# Altium schematic symbol library BoardLib.SchLib: 29 symbols
Pins are listed as number, name and electrical type; pins without a type are passive.

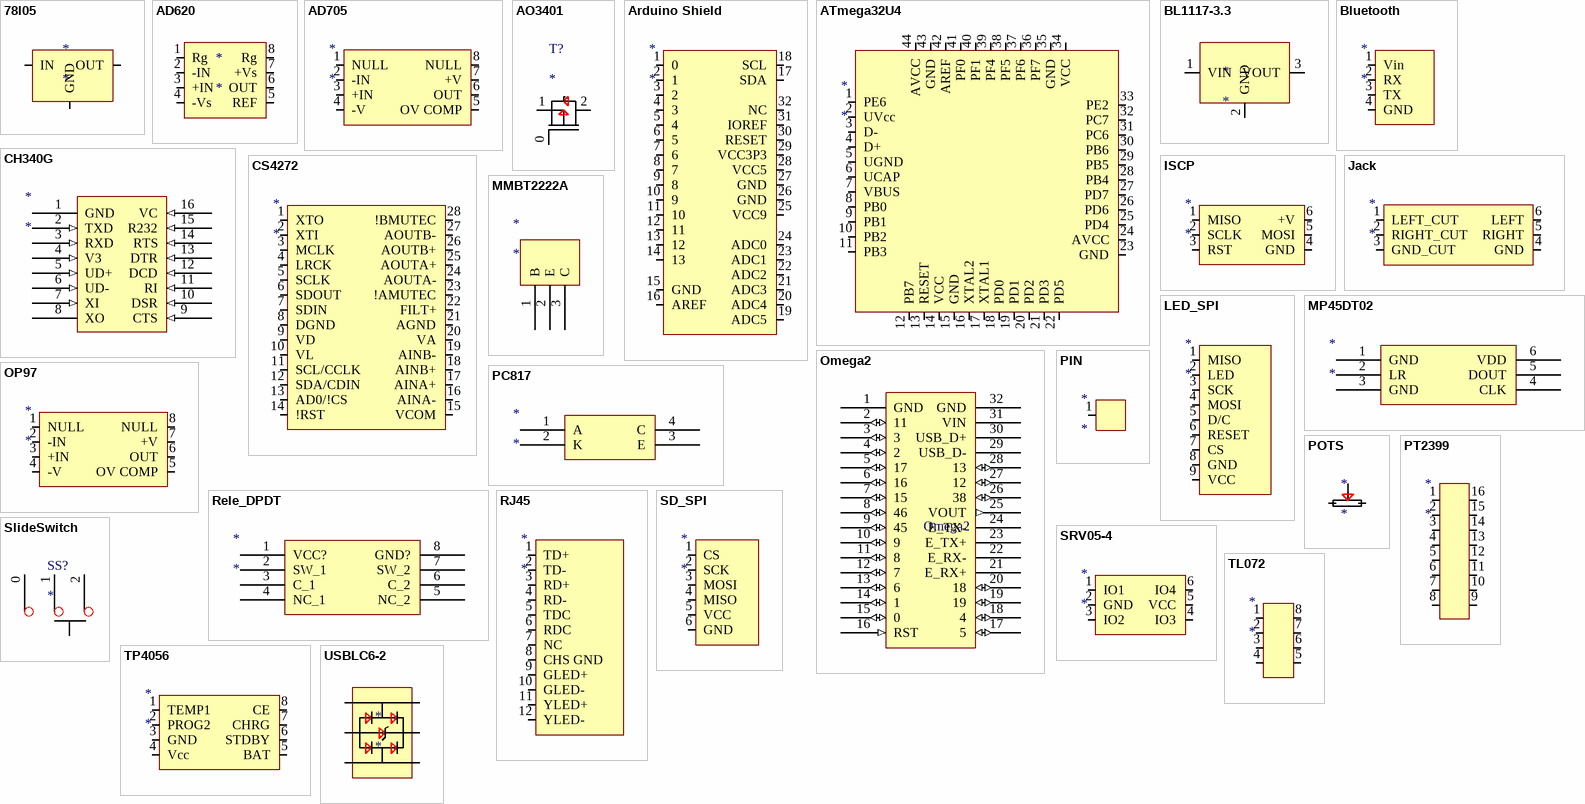
[diagram p0: symbols 78l05 to USBLC6-2]

## 78l05
designator *
footprint TO92; pin to pad 1>3 3>1
pins: 1 IN, 2 GND, 3 OUT

## AD620
designator *
footprint SOP8
pins: 1 Rg, 2 -IN, 3 +IN, 4 -Vs, 5 REF, 6 OUT, 7 +Vs, 8 Rg

## AD705
designator *
footprint SOP8
pins: 1 NULL, 2 -IN, 3 +IN, 4 -V, 5 OV COMP, 6 OUT, 7 +V, 8 NULL

## AO3401
designator T?
footprint SOT95P245X110-3N (SOT23, 3-Leads, Body 2,90x2,45mm, Pitch 0,95mm, IPC Medium Density)
pins: 0 GATE, 1 SOURCE, 2 DRAIL

## Arduino Shield
designator *
footprint Arduino Shield
pins: 1 0, 2 1, 3 2, 4 3, 5 4, 6 5, 7 6, 8 7, 9 8, 10 9, 11 10, 12 11, 13 12, 14 13, 15 GND, 16 AREF, 17 SDA, 18 SCL, 19 ADC5, 20 ADC4, 21 ADC3, 22 ADC2, 23 ADC1, 24 ADC0, 25 VCC9, 26 GND, 27 GND, 28 VCC5, 29 VCC3P3, 30 RESET, 31 IOREF, 32 NC

## ATmega32U4
designator *
pins: 1 PE6, 2 UVcc, 3 D-, 4 D+, 5 UGND, 6 UCAP, 7 VBUS, 8 PB0, 9 PB1, 10 PB2, 11 PB3, 12 PB7, 13 RESET, 14 VCC, 15 GND, 16 XTAL2, 17 XTAL1, 18 PD0, 19 PD1, 20 PD2, 21 PD3, 22 PD5, 23 GND, 24 AVCC, 25 PD4, 26 PD6, 27 PD7, 28 PB4, 29 PB5, 30 PB6, 31 PC6, 32 PC7, 33 PE2, 34 VCC, 35 GND, 36 PF7, 37 PF6, 38 PF5, 39 PF4, 40 PF1, 41 PF0, 42 AREF, 43 GND, 44 AVCC

## BL1117-3.3
designator *
footprint SOT230P700X180-4N (SOT223, 4-Leads, Body 6,50x7,00mm (avg), Pitch 2,30mm, IPC Medium Density)
pins: 1 VIN, 2 GND, 3 VOUT

## Bluetooth
designator *
pins: 1 Vin, 2 RX, 3 TX, 4 GND

## CH340G
designator *
footprint SO16
pins: 1 GND, 2 TXD (in), 3 RXD (in), 4 V3 (in), 5 UD+ (in), 6 UD- (in), 7 XI (in), 8 XO, 9 CTS (in), 10 DSR (in), 11 RI (in), 12 DCD (in), 13 DTR (in), 14 RTS (in), 15 R232 (in), 16 VC (in)

## CS4272
designator *
footprint SOP28
pins: 1 XTO, 2 XTI, 3 MCLK, 4 LRCK, 5 SCLK, 6 SDOUT, 7 SDIN, 8 DGND, 9 VD, 10 VL, 11 SCL/CCLK, 12 SDA/CDIN, 13 AD0/!CS, 14 !RST, 15 VCOM, 16 AINA-, 17 AINA+, 18 AINB+, 19 AINB-, 20 VA, 21 AGND, 22 FILT+, 23 !AMUTEC, 24 AOUTA-, 25 AOUTA+, 26 AOUTB+, 27 AOUTB-, 28 !BMUTEC

## ISCP
designator *
pins: 1 MISO, 2 SCLK, 3 RST, 4 GND, 5 MOSI, 6 +V

## Jack
designator *
footprint Audio Jack 6.3
pins: 1 LEFT_CUT, 2 RIGHT_CUT, 3 GND_CUT, 4 GND, 5 RIGHT, 6 LEFT

## LED_SPI
designator *
pins: 1 MISO, 2 LED, 3 SCK, 4 MOSI, 5 D/C, 6 RESET, 7 CS, 8 GND, 9 VCC

## MMBT2222A
designator *
footprint SOT95P245X110-3N (SOT23, 3-Leads, Body 2,90x2,45mm, Pitch 0,95mm, IPC Medium Density); pin to pad 1>0 2>1 3>2
pins: 1 B, 2 E, 3 C

## MP45DT02
designator *
footprint HLGA6L
pins: 1 GND, 2 LR, 3 GND, 4 CLK, 5 DOUT, 6 VDD

## Omega2
designator 0mega2
footprint Omega2PCB
pins: 1 GND, 2 11 (io), 3 (io), 4 2 (io), 5 17 (io), 6 16 (io), 7 15 (io), 8 46 (io), 9 45 (io), 10 9 (io), 11 8 (io), 12 7 (io), 13 6 (io), 14 1 (io), 15 0 (io), 16 RST (in), 17 5 (io), 18 4 (io), 19 (io), 20 18 (io), 21 E_RX+, 22 E_RX-, 23 E_TX+, 24 E_TX-, 25 VOUT (out), 26 38 (io), 27 12 (io), 28 13 (io), 29 USB_D-, 30 USB_D+, 31 VIN (power), 32 GND

## OP97
designator *
footprint SOP8
pins: 1 NULL, 2 -IN, 3 +IN, 4 -V, 5 OV COMP, 6 OUT, 7 +V, 8 NULL

## PC817
designator *
pins: 1 A, 2 K, 3 E, 4 C

## PIN
designator *
footprint PIN
pins: 1

## POTS
designator *
footprint POTS
pins: 1 21, 2 22, 3 20

## PT2399
designator *
footprint DIP16
pins: 1, 2, 3, 4, 5, 6, 7, 8, 9, 10, 11, 12, 13, 14, 15, 16

## Rele_DPDT
designator *
footprint 8PIN_RELE
pins: 1 VCC?, 2 SW_1, 3 C_1, 4 NC_1, 5 NC_2, 6 C_2, 7 SW_2, 8 GND?

## RJ45
designator *
footprint R911105A
pins: 1 TD+, 2 TD-, 3 RD+, 4 RD-, 5 TDC, 6 RDC, 7 NC, 8 CHS GND, 9 GLED+, 10 GLED-, 11 YLED+, 12 YLED-

## SD_SPI
designator *
pins: 1 CS, 2 SCK, 3 MOSI, 4 MISO, 5 VCC, 6 GND

## SlideSwitch
designator SS?
footprint SlideSwitch
pins: 0, 1, 2

## SRV05-4
designator *
footprint SOT23-6L
pins: 1 IO1 (in), 2 GND (in), 3 IO2 (in), 4 IO3 (in), 5 VCC (in), 6 IO4 (in)

## TL072
designator *
footprint DIP8
pins: 1, 2, 3, 4, 5, 6, 7, 8

## TP4056
designator *
pins: 1 TEMP1, 2 PROG2, 3 GND, 4 Vcc, 5 BAT, 6 STDBY, 7 CHRG, 8 CE

## USBLC6-2
designator *
footprint SOT23-6L
pins: 1, 2 gnd, 3 2, 4 14, 5, 6 16